# Altium schematic symbol library N-Channel FET.SchLib: 448 symbols (part 7 of 8)
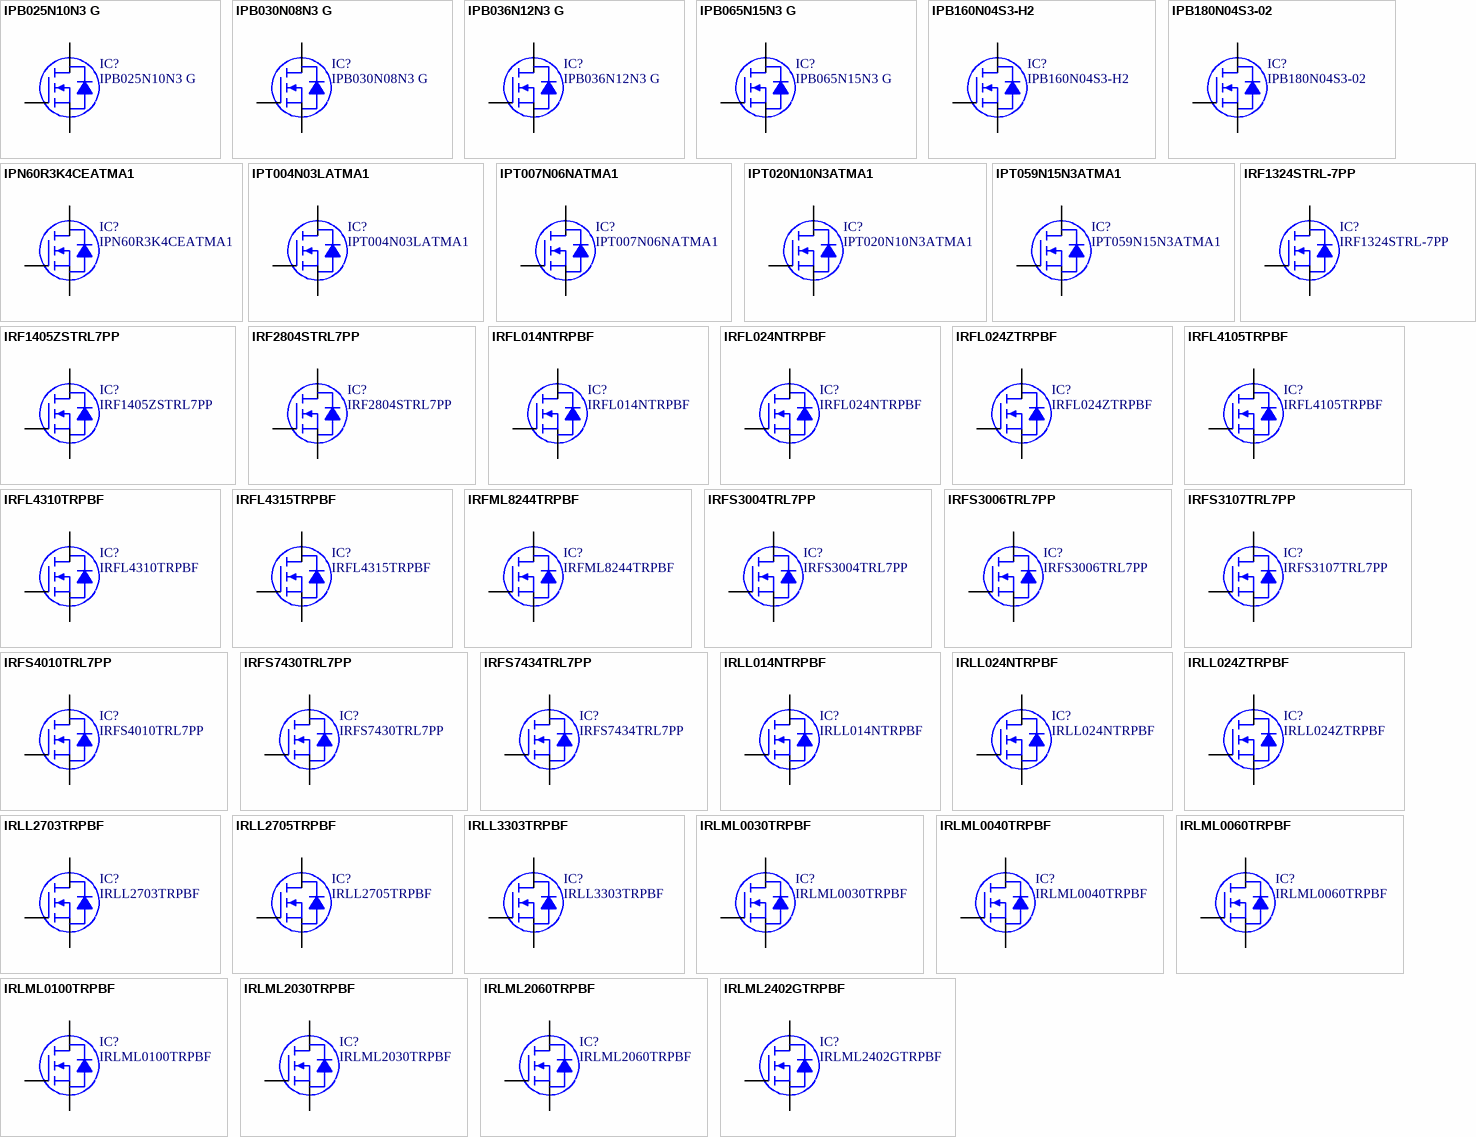
[diagram p17: symbols IPB025N10N3 G to IRLML2402GTRPBF]

## IRF1324STRL-7PP
designator IC?
MOSFET N-CH 24V 429A D2PAK-7; Manufacturer: Infineon Technologies Americas Corp.; Rds On (Max) at Id, Vgs: 1 mOhm @ 160A, 10V; Vgs(th) (Max) at Id: 4V @ 250uA; Gate Charge (Qg): 252nC @ 10V; Input Capacitance (Ciss) at Vds: 7700pF @ 19V; Power - Max: 300W; Current Continuous Drain: 240A (Tc); Part Number: IRF1324STRL-7PP; PartId: 8058; Supplier 1: Digi-Key; Supplier Part Number 1: IRF1324STRL-7PPTR-ND; ComponentLink1Description: Datasheet; ComponentLink1URL: http://www.irf.com/product-info/datasheets/data/irf1324s-7ppbf.pdf; ComponentLink2Description: Digi-Key Listing; ComponentLink2URL: http://www.digikey.com/product-detail/en/IRF1324STRL-7PP/IRF1324STRL-7PPTR-ND/1925287; Price: 3.2602; Type: MOSFET N-Channel, Metal Oxide; Device Package: TO-263-7, DPak (6 Leads + Tab), TO-263CB; Drain to Source Voltage (Vdss): 24V; Features: Standard
footprint INFINEON TO-263-7
pins: 1 G, 2 S, 3 S, 5 S, 6 S, 7 S, 8 D

## IRF1405ZSTRL7PP
designator IC?
MOSFET N-CH 55V 150A D2PAK-7; Manufacturer: Infineon Technologies Americas Corp.; Rds On (Max) at Id, Vgs: 4.9 mOhm @ 88A, 10V; Vgs(th) (Max) at Id: 4V @ 150uA; Gate Charge (Qg): 230nC @ 10V; Input Capacitance (Ciss) at Vds: 5360pF @ 25V; Power - Max: 230W; Current Continuous Drain: 120A (Tc); Part Number: IRF1405ZSTRL7PP; PartId: 8057; Supplier 1: Digi-Key; Supplier Part Number 1: IRF1405ZSTRL7PPTR-ND; ComponentLink1Description: Datasheet; ComponentLink1URL: http://www.irf.com/product-info/datasheets/data/irf1405zs-7ppbf.pdf; ComponentLink2Description: Digi-Key Listing; ComponentLink2URL: http://www.digikey.com/product-detail/en/IRF1405ZSTRL7PP/IRF1405ZSTRL7PPTR-ND/2354054; Price: 2.4651; Type: MOSFET N-Channel, Metal Oxide; Device Package: TO-263-7, DPak (6 Leads + Tab), TO-263CB; Drain to Source Voltage (Vdss): 55V; Features: Standard
footprint INFINEON TO-263-7
pins: 1 G, 2 S, 3 S, 5 S, 6 S, 7 S, 8 D

## IRF2804STRL7PP
designator IC?
MOSFET N-CH 40V 160A D2PAK-7; Manufacturer: Infineon Technologies Americas Corp.; Rds On (Max) at Id, Vgs: 1.6 mOhm @ 160A, 10V; Vgs(th) (Max) at Id: 4V @ 250uA; Gate Charge (Qg): 260nC @ 10V; Input Capacitance (Ciss) at Vds: 6930pF @ 25V; Power - Max: 330W; Current Continuous Drain: 160A (Tc); Part Number: IRF2804STRL7PP; PartId: 8056; Supplier 1: Digi-Key; Supplier Part Number 1: IRF2804STRL7PPTR-ND; ComponentLink1Description: Datasheet; ComponentLink1URL: http://www.irf.com/product-info/datasheets/data/irf2804s-7p.pdf; ComponentLink2Description: Digi-Key Listing; ComponentLink2URL: http://www.digikey.com/product-detail/en/IRF2804STRL7PP/IRF2804STRL7PPTR-ND/1828320; Price: 3.3034; Type: MOSFET N-Channel, Metal Oxide; Device Package: TO-263-7, DPak (6 Leads + Tab), TO-263CB; Drain to Source Voltage (Vdss): 40V; Features: Standard
footprint INFINEON TO-263-7
pins: 1 G, 2 S, 3 S, 5 S, 6 S, 7 S, 8 D

## IRFL014NTRPBF
designator IC?
MOSFET N-CH 55V 1.9A SOT223; Manufacturer: Infineon Technologies; Rds On (Max) at Id, Vgs: 160 mOhm @ 1.9A, 10V; Vgs(th) (Max) at Id: 20V; Gate Charge (Qg): 11nC @ 10V; Input Capacitance (Ciss) at Vds: 190pF @ 25V; Current Continuous Drain: 1.9A (Ta); Part Number: IRFL014NTRPBF; PartId: 29688; Supplier 1: Digi-Key; Supplier Part Number 1: IRFL014NPBFCT-ND; ComponentLink1Description: Datasheet; ComponentLink1URL: http://www.irf.com/product-info/datasheets/data/irfl014npbf.pdf; ComponentLink2Description: Digi-Key Listing; ComponentLink2URL: https://www.digikey.com/product-detail/en/infineon-technologies/IRFL014NTRPBF/IRFL014NPBFCT-ND/827837; Price: 0.84; Type: N-Channel; Device Package: TO-261-4, TO-261AA; Drain to Source Voltage (Vdss): 55V
footprint INFINEON SOT-223
pins: 1 G, 2 D, 3 S, 4 D

## IRFL024NTRPBF
designator IC?
MOSFET N-CH 55V 2.8A SOT223; Manufacturer: Infineon Technologies; Rds On (Max) at Id, Vgs: 75 mOhm @ 2.8A, 10V; Vgs(th) (Max) at Id: 20V; Gate Charge (Qg): 18.3nC @ 10V; Input Capacitance (Ciss) at Vds: 400pF @ 25V; Current Continuous Drain: 2.8A (Ta); Part Number: IRFL024NTRPBF; PartId: 29684; Supplier 1: Digi-Key; Supplier Part Number 1: IRFL024NTRPBFCT-ND; ComponentLink1Description: Datasheet; ComponentLink1URL: http://www.irf.com/product-info/datasheets/data/irfl024npbf.pdf; ComponentLink2Description: Digi-Key Listing; ComponentLink2URL: https://www.digikey.com/product-detail/en/infineon-technologies/IRFL024NTRPBF/IRFL024NTRPBFCT-ND/2441038; Price: 1.09; Type: N-Channel; Device Package: TO-261-4, TO-261AA; Drain to Source Voltage (Vdss): 55V
footprint INFINEON SOT-223
pins: 1 G, 2 D, 3 S, 4 D

## IRFL024ZTRPBF
designator IC?
MOSFET N-CH 55V 5.1A SOT223; Manufacturer: Infineon Technologies Americas Corp.; Rds On (Max) at Id, Vgs: 57.5 mOhm @ 3.1A, 10V; Vgs(th) (Max) at Id: 4V @ 250uA; Gate Charge (Qg): 14nC @ 10V; Input Capacitance (Ciss) at Vds: 340pF @ 25V; Power - Max: 1W; Current Continuous Drain: 5.1A (Ta); Part Number: IRFL024ZTRPBF; PartId: 8095; Supplier 1: Digi-Key; Supplier Part Number 1: IRFL024ZTRPBFTR-ND; ComponentLink1Description: Datasheet; ComponentLink1URL: http://www.irf.com/product-info/datasheets/data/irfl024zpbf.pdf; ComponentLink2Description: Digi-Key Listing; ComponentLink2URL: http://www.digikey.com/product-detail/en/IRFL024ZTRPBF/IRFL024ZTRPBFTR-ND/1928237; Price: 0.29; Type: MOSFET N-Channel, Metal Oxide; Device Package: TO-261-4, TO-261AA; Drain to Source Voltage (Vdss): 55V; Features: Standard
footprint INFINEON SOT-223
pins: 1 G, 2 D, 3 S, 4 D

## IRFL4105TRPBF
designator IC?
MOSFET N-CH 55V 3.7A SOT223; Manufacturer: Infineon Technologies; Rds On (Max) at Id, Vgs: 45 mOhm @ 3.7A, 10V; Vgs(th) (Max) at Id: 20V; Gate Charge (Qg): 35nC @ 10V; Input Capacitance (Ciss) at Vds: 660pF @ 25V; Current Continuous Drain: 3.7A (Ta); Part Number: IRFL4105TRPBF; PartId: 29682; Supplier 1: Digi-Key; Supplier Part Number 1: IRFL4105TRPBFCT-ND; ComponentLink1Description: Datasheet; ComponentLink1URL: http://www.irf.com/product-info/datasheets/data/irfl4105pbf.pdf; ComponentLink2Description: Digi-Key Listing; ComponentLink2URL: https://www.digikey.com/product-detail/en/infineon-technologies/IRFL4105TRPBF/IRFL4105TRPBFCT-ND/1769892; Price: 1.25; Type: N-Channel; Device Package: TO-261-4, TO-261AA; Drain to Source Voltage (Vdss): 55V
footprint INFINEON SOT-223
pins: 1 G, 2 D, 3 S, 4 D

## IRFL4310TRPBF
designator IC?
MOSFET N-CH 100V 1.6A SOT223; Manufacturer: Infineon Technologies; Rds On (Max) at Id, Vgs: 200 mOhm @ 1.6A, 10V; Vgs(th) (Max) at Id: 20V; Gate Charge (Qg): 25nC @ 10V; Input Capacitance (Ciss) at Vds: 330pF @ 25V; Current Continuous Drain: 1.6A (Ta); Part Number: IRFL4310TRPBF; PartId: 29672; Supplier 1: Digi-Key; Supplier Part Number 1: IRFL4310TRPBFCT-ND; ComponentLink1Description: Datasheet; ComponentLink1URL: http://www.irf.com/product-info/datasheets/data/irfl4310pbf.pdf; ComponentLink2Description: Digi-Key Listing; ComponentLink2URL: https://www.digikey.com/product-detail/en/infineon-technologies/IRFL4310TRPBF/IRFL4310TRPBFCT-ND/1769893; Price: 0.89; Type: N-Channel; Device Package: TO-261-4, TO-261AA; Drain to Source Voltage (Vdss): 100V
footprint INFINEON SOT-223
pins: 1 G, 2 D, 3 S, 4 D

## IRFL4315TRPBF
designator IC?
MOSFET N-CH 150V 2.6A SOT223; Manufacturer: Infineon Technologies; Rds On (Max) at Id, Vgs: 185 mOhm @ 1.6A, 10V; Vgs(th) (Max) at Id: 30V; Gate Charge (Qg): 19nC @ 10V; Input Capacitance (Ciss) at Vds: 420pF @ 25V; Current Continuous Drain: 2.6A (Ta); Part Number: IRFL4315TRPBF; PartId: 29681; Supplier 1: Digi-Key; Supplier Part Number 1: IRFL4315TRPBFCT-ND; ComponentLink1Description: Datasheet; ComponentLink1URL: http://www.irf.com/product-info/datasheets/data/irfl4315pbf.pdf; ComponentLink2Description: Digi-Key Listing; ComponentLink2URL: https://www.digikey.com/product-detail/en/infineon-technologies/IRFL4315TRPBF/IRFL4315TRPBFCT-ND/2441040; Price: 1.19; Type: N-Channel; Device Package: TO-261-4, TO-261AA; Drain to Source Voltage (Vdss): 150V
footprint INFINEON SOT-223
pins: 1 G, 2 D, 3 S, 4 D

## IRFML8244TRPBF
designator IC?
MOSFET N-CH 25V 5.8A SOT23; Manufacturer: Infineon Technologies; Rds On (Max) at Id, Vgs: 24 mOhm @ 5.8A, 10V; Vgs(th) (Max) at Id: 20V; Gate Charge (Qg): 5.4nC @ 10V; Input Capacitance (Ciss) at Vds: 430pF @ 10V; Current Continuous Drain: 5.8A (Ta); Part Number: IRFML8244TRPBF; PartId: 29462; Supplier 1: Digi-Key; Supplier Part Number 1: IRFML8244TRPBFCT-ND; ComponentLink1Description: Datasheet; ComponentLink1URL: http://www.irf.com/product-info/datasheets/data/irfml8244pbf.pdf; ComponentLink2Description: Digi-Key Listing; ComponentLink2URL: https://www.digikey.com/product-detail/en/infineon-technologies/IRFML8244TRPBF/IRFML8244TRPBFCT-ND/2538166; Price: 0.67; Type: N-Channel; Device Package: TO-236-3, SC-59, SOT-23-3; Drain to Source Voltage (Vdss): 25V
footprint INFINEON SOT-23-3
pins: 1 G, 2 D, 3 S

## IRFS3004TRL7PP
designator IC?
MOSFET N-CH 40V 240A D2PAK7; Manufacturer: Infineon Technologies Americas Corp.; Rds On (Max) at Id, Vgs: 1.25 mOhm @ 195A, 10V; Vgs(th) (Max) at Id: 4V @ 250uA; Gate Charge (Qg): 240nC @ 10V; Input Capacitance (Ciss) at Vds: 9130pF @ 25V; Power - Max: 380W; Current Continuous Drain: 240A (Tc); Part Number: IRFS3004TRL7PP; PartId: 8055; Supplier 1: Digi-Key; Supplier Part Number 1: IRFS3004TRL7PPTR-ND; ComponentLink1Description: Datasheet; ComponentLink1URL: http://www.irf.com/product-info/datasheets/data/irfs3004-7ppbf.pdf; ComponentLink2Description: Digi-Key Listing; ComponentLink2URL: http://www.digikey.com/product-detail/en/IRFS3004TRL7PP/IRFS3004TRL7PPTR-ND/2096603; Price: 2.6659; Type: MOSFET N-Channel, Metal Oxide; Device Package: TO-263-7, DPak (6 Leads + Tab), TO-263CB; Drain to Source Voltage (Vdss): 40V; Features: Standard
footprint INFINEON TO-263-7
pins: 1 G, 2 S, 3 S, 5 S, 6 S, 7 S, 8 D

## IRFS3006TRL7PP
designator IC?
MOSFET N-CH 60V 240A D2PAK7; Manufacturer: Infineon Technologies Americas Corp.; Rds On (Max) at Id, Vgs: 2.1 mOhm @ 168A, 10V; Vgs(th) (Max) at Id: 4V @ 250uA; Gate Charge (Qg): 300nC @ 10V; Input Capacitance (Ciss) at Vds: 8850pF @ 50V; Power - Max: 375W; Current Continuous Drain: 240A (Tc); Part Number: IRFS3006TRL7PP; PartId: 8054; Supplier 1: Digi-Key; Supplier Part Number 1: IRFS3006TRL7PPTR-ND; ComponentLink1Description: Datasheet; ComponentLink1URL: http://www.irf.com/product-info/datasheets/data/irfs3006-7ppbf.pdf; ComponentLink2Description: Digi-Key Listing; ComponentLink2URL: http://www.digikey.com/product-detail/en/IRFS3006TRL7PP/IRFS3006TRL7PPTR-ND/2096605; Price: 3.2121; Type: MOSFET N-Channel, Metal Oxide; Device Package: TO-263-7, DPak (6 Leads + Tab), TO-263CB; Drain to Source Voltage (Vdss): 60V; Features: Standard
footprint INFINEON TO-263-7
pins: 1 G, 2 S, 3 S, 5 S, 6 S, 7 S, 8 D

## IRFS3107TRL7PP
designator IC?
MOSFET N-CH 75V 240A D2PAK7; Manufacturer: Infineon Technologies Americas Corp.; Rds On (Max) at Id, Vgs: 2.6 mOhm @ 160A, 10V; Vgs(th) (Max) at Id: 4V @ 250uA; Gate Charge (Qg): 240nC @ 10V; Input Capacitance (Ciss) at Vds: 9200pF @ 50V; Power - Max: 370W; Current Continuous Drain: 240A (Tc); Part Number: IRFS3107TRL7PP; PartId: 8053; Supplier 1: Digi-Key; Supplier Part Number 1: IRFS3107TRL7PPTR-ND; ComponentLink1Description: Datasheet; ComponentLink1URL: http://www.irf.com/product-info/datasheets/data/irfs3107-7ppbf.pdf; ComponentLink2Description: Digi-Key Listing; ComponentLink2URL: http://www.digikey.com/product-detail/en/IRFS3107TRL7PP/IRFS3107TRL7PPTR-ND/2096607; Price: 3.2818; Type: MOSFET N-Channel, Metal Oxide; Device Package: TO-263-7, DPak (6 Leads + Tab), TO-263CB; Drain to Source Voltage (Vdss): 75V; Features: Standard
footprint INFINEON TO-263-7
pins: 1 G, 2 S, 3 S, 5 S, 6 S, 7 S, 8 D

## IRFS4010TRL7PP
designator IC?
MOSFET N-CH 100V 190A D2PAK-7; Manufacturer: Infineon Technologies Americas Corp.; Rds On (Max) at Id, Vgs: 4 mOhm @ 110A, 10V; Vgs(th) (Max) at Id: 4V @ 250uA; Gate Charge (Qg): 230nC @ 10V; Input Capacitance (Ciss) at Vds: 9830pF @ 50V; Power - Max: 380W; Current Continuous Drain: 190A (Tc); Part Number: IRFS4010TRL7PP; PartId: 8052; Supplier 1: Digi-Key; Supplier Part Number 1: IRFS4010TRL7PPTR-ND; ComponentLink1Description: Datasheet; ComponentLink1URL: http://www.irf.com/product-info/datasheets/data/irfs4010-7ppbf.pdf; ComponentLink2Description: Digi-Key Listing; ComponentLink2URL: http://www.digikey.com/product-detail/en/IRFS4010TRL7PP/IRFS4010TRL7PPTR-ND/2096609; Price: 3.2453; Type: MOSFET N-Channel, Metal Oxide; Device Package: TO-263-7, DPak (6 Leads + Tab), TO-263CB; Drain to Source Voltage (Vdss): 100V; Features: Standard
footprint INFINEON TO-263-7
pins: 1 G, 2 S, 3 S, 5 S, 6 S, 7 S, 8 D

## IRFS7430TRL7PP
designator IC?
MOSFET N-CH 40V 240A D2PAK; Manufacturer: Infineon Technologies Americas Corp.; Rds On (Max) at Id, Vgs: 0.75 mOhm @ 100A, 10V; Vgs(th) (Max) at Id: 3.9V @ 250uA; Gate Charge (Qg): 460nC @ 10V; Input Capacitance (Ciss) at Vds: 13975pF @ 25V; Power - Max: 375W; Current Continuous Drain: 240A (Tc); Part Number: IRFS7430TRL7PP; PartId: 14960; Supplier 1: Digi-Key; Supplier Part Number 1: IRFS7430TRL7PPCT-ND; ComponentLink1Description: Datasheet; ComponentLink1URL: http://www.irf.com/product-info/datasheets/data/irfs7430-7ppbf.pdf; ComponentLink2Description: Digi-Key Listing; ComponentLink2URL: http://www.digikey.com/product-detail/en/infineon-technologies-americas-corp/IRFS7430TRL7PP/IRFS7430TRL7PPCT-ND/4895121; Price: 3.44; Type: MOSFET N-Channel, Metal Oxide; Device Package: TO-263-7, DPak (6 Leads + Tab); Drain to Source Voltage (Vdss): 40V; Features: Standard
footprint IRF TO-263-7
pins: 1 G, 2 S, 3 S, 5 S, 6 S, 7 S, 8 D

## IRFS7434TRL7PP
designator IC?
MOSFET N-CH 40V 240A D2PAK-7; Manufacturer: Infineon Technologies Americas Corp.; Rds On (Max) at Id, Vgs: 1 mOhm @ 100A, 10V; Vgs(th) (Max) at Id: 3.9V @ 250uA; Gate Charge (Qg): 315nC @ 10V; Input Capacitance (Ciss) at Vds: 10250pF @ 25V; Power - Max: 245W; Current Continuous Drain: 240A (Tc); Part Number: IRFS7434TRL7PP; PartId: 8051; Supplier 1: Digi-Key; Supplier Part Number 1: IRFS7434TRL7PPTR-ND; ComponentLink1Description: Datasheet; ComponentLink1URL: http://www.irf.com/product-info/datasheets/data/irfs7434-7ppbf.pdf; ComponentLink2Description: Digi-Key Listing; ComponentLink2URL: http://www.digikey.com/product-detail/en/IRFS7434TRL7PP/IRFS7434TRL7PPTR-ND/4474014; Price: 1.694; Type: MOSFET N-Channel, Metal Oxide; Device Package: TO-263-7, DPak (6 Leads + Tab); Drain to Source Voltage (Vdss): 40V; Features: Standard
footprint INFINEON TO-263-7
pins: 1 G, 2 S, 3 S, 5 S, 6 S, 7 S, 8 D

## IRLL014NTRPBF
designator IC?
MOSFET N-CH 55V 2A SOT223; Manufacturer: Infineon Technologies; Rds On (Max) at Id, Vgs: 140 mOhm @ 2A, 10V; Vgs(th) (Max) at Id: 16V; Gate Charge (Qg): 14nC @ 10V; Input Capacitance (Ciss) at Vds: 230pF @ 25V; Current Continuous Drain: 2A (Ta); Part Number: IRLL014NTRPBF; PartId: 29671; Supplier 1: Digi-Key; Supplier Part Number 1: IRLL014NPBFCT-ND; ComponentLink1Description: Datasheet; ComponentLink1URL: http://www.irf.com/product-info/datasheets/data/irll014npbf.pdf; ComponentLink2Description: Digi-Key Listing; ComponentLink2URL: https://www.digikey.com/product-detail/en/infineon-technologies/IRLL014NTRPBF/IRLL014NPBFCT-ND/812519; Price: 0.95; Type: N-Channel; Device Package: TO-261-4, TO-261AA; Drain to Source Voltage (Vdss): 55V
footprint INFINEON SOT-223
pins: 1 G, 2 D, 3 S, 4 D

## IRLL024NTRPBF
designator IC?
MOSFET N-CH 55V 3.1A SOT223; Manufacturer: Infineon Technologies; Rds On (Max) at Id, Vgs: 65 mOhm @ 3.1A, 10V; Vgs(th) (Max) at Id: 16V; Gate Charge (Qg): 15.6nC @ 5V; Input Capacitance (Ciss) at Vds: 510pF @ 25V; Current Continuous Drain: 3.1A (Ta); Part Number: IRLL024NTRPBF; PartId: 29673; Supplier 1: Digi-Key; Supplier Part Number 1: IRLL024NPBFCT-ND; ComponentLink1Description: Datasheet; ComponentLink1URL: http://www.irf.com/product-info/datasheets/data/irll024npbf.pdf; ComponentLink2Description: Digi-Key Listing; ComponentLink2URL: https://www.digikey.com/product-detail/en/infineon-technologies/IRLL024NTRPBF/IRLL024NPBFCT-ND/827832; Price: 0.92; Type: N-Channel; Device Package: TO-261-4, TO-261AA; Drain to Source Voltage (Vdss): 55V
footprint INFINEON SOT-223
pins: 1 G, 2 D, 3 S, 4 D

## IRLL024ZTRPBF
designator IC?
MOSFET N-CH 55V 5A SOT223; Manufacturer: Infineon Technologies; Rds On (Max) at Id, Vgs: 60 mOhm @ 3A, 10V; Vgs(th) (Max) at Id: 16V; Gate Charge (Qg): 11nC @ 5V; Input Capacitance (Ciss) at Vds: 380pF @ 25V; Current Continuous Drain: 5A (Tc); Part Number: IRLL024ZTRPBF; PartId: 29676; Supplier 1: Digi-Key; Supplier Part Number 1: IRLL024ZTRPBFCT-ND; ComponentLink1Description: Datasheet; ComponentLink1URL: http://www.irf.com/product-info/datasheets/data/irll024zpbf.pdf; ComponentLink2Description: Digi-Key Listing; ComponentLink2URL: https://www.digikey.com/product-detail/en/infineon-technologies/IRLL024ZTRPBF/IRLL024ZTRPBFCT-ND/2441086; Price: 0.91; Type: N-Channel; Device Package: TO-261-4, TO-261AA; Drain to Source Voltage (Vdss): 55V
footprint INFINEON SOT-223
pins: 1 G, 2 D, 3 S, 4 D

## IRLL2703TRPBF
designator IC?
MOSFET N-CH 30V 3.9A SOT223; Manufacturer: Infineon Technologies; Rds On (Max) at Id, Vgs: 45 mOhm @ 3.9A, 10V; Vgs(th) (Max) at Id: 16V; Gate Charge (Qg): 14nC @ 5V; Input Capacitance (Ciss) at Vds: 530pF @ 25V; Current Continuous Drain: 3.9A (Ta); Part Number: IRLL2703TRPBF; PartId: 29677; Supplier 1: Digi-Key; Supplier Part Number 1: IRLL2703TRPBFCT-ND; ComponentLink1Description: Datasheet; ComponentLink1URL: http://www.irf.com/product-info/datasheets/data/irll2703pbf.pdf; ComponentLink2Description: Digi-Key Listing; ComponentLink2URL: https://www.digikey.com/product-detail/en/infineon-technologies/IRLL2703TRPBF/IRLL2703TRPBFCT-ND/2441087; Price: 0.95; Type: N-Channel; Device Package: TO-261-4, TO-261AA; Drain to Source Voltage (Vdss): 30V
footprint INFINEON SOT-223
pins: 1 G, 2 D, 3 S, 4 D

## IRLL2705TRPBF
designator IC?
MOSFET N-CH 55V 3.8A SOT223; Manufacturer: Infineon Technologies; Rds On (Max) at Id, Vgs: 40 mOhm @ 3.8A, 10V; Vgs(th) (Max) at Id: 16V; Gate Charge (Qg): 48nC @ 10V; Input Capacitance (Ciss) at Vds: 870pF @ 25V; Current Continuous Drain: 3.8A (Ta); Part Number: IRLL2705TRPBF; PartId: 29674; Supplier 1: Digi-Key; Supplier Part Number 1: IRLL2705PBFCT-ND; ComponentLink1Description: Datasheet; ComponentLink1URL: http://www.irf.com/product-info/datasheets/data/irll2705pbf.pdf; ComponentLink2Description: Digi-Key Listing; ComponentLink2URL: https://www.digikey.com/product-detail/en/infineon-technologies/IRLL2705TRPBF/IRLL2705PBFCT-ND/812586; Price: 1.01; Type: N-Channel; Device Package: TO-261-4, TO-261AA; Drain to Source Voltage (Vdss): 55V
footprint INFINEON SOT-223
pins: 1 G, 2 D, 3 S, 4 D

## IRLL3303TRPBF
designator IC?
MOSFET N-CH 30V 4.6A SOT223; Manufacturer: Infineon Technologies; Rds On (Max) at Id, Vgs: 31 mOhm @ 4.6A, 10V; Vgs(th) (Max) at Id: 16V; Gate Charge (Qg): 50nC @ 10V; Input Capacitance (Ciss) at Vds: 840pF @ 25V; Current Continuous Drain: 4.6A (Ta); Part Number: IRLL3303TRPBF; PartId: 29683; Supplier 1: Digi-Key; Supplier Part Number 1: IRLL3303PBFCT-ND; ComponentLink1Description: Datasheet; ComponentLink1URL: http://www.irf.com/product-info/datasheets/data/irll3303pbf.pdf; ComponentLink2Description: Digi-Key Listing; ComponentLink2URL: https://www.digikey.com/product-detail/en/infineon-technologies/IRLL3303TRPBF/IRLL3303PBFCT-ND/812590; Price: 1.23; Type: N-Channel; Device Package: TO-261-4, TO-261AA; Drain to Source Voltage (Vdss): 30V
footprint INFINEON SOT-223
pins: 1 G, 2 D, 3 S, 4 D

## IRLML0030TRPBF
designator IC?
MOSFET N-CH 30V 5.3A SOT-23-3; Manufacturer: Infineon Technologies; Rds On (Max) at Id, Vgs: 27 mOhm @ 5.2A, 10V; Vgs(th) (Max) at Id: 20V; Gate Charge (Qg): 2.6nC @ 4.5V; Input Capacitance (Ciss) at Vds: 382pF @ 15V; Current Continuous Drain: 5.3A (Ta); Part Number: IRLML0030TRPBF; PartId: 29466; Supplier 1: Digi-Key; Supplier Part Number 1: IRLML0030TRPBFCT-ND; ComponentLink1Description: Datasheet; ComponentLink1URL: http://www.irf.com/product-info/datasheets/data/irLML0030pbf.pdf; ComponentLink2Description: Digi-Key Listing; ComponentLink2URL: https://www.digikey.com/product-detail/en/infineon-technologies/IRLML0030TRPBF/IRLML0030TRPBFCT-ND/2202231; Price: 0.57; Type: N-Channel; Device Package: TO-236-3, SC-59, SOT-23-3; Drain to Source Voltage (Vdss): 30V
footprint INFINEON SOT-23-3
pins: 1 G, 2 D, 3 S

## IRLML0040TRPBF
designator IC?
MOSFET N-CH 40V 3.6A SOT-23-3; Manufacturer: Infineon Technologies Americas Corp.; Rds On (Max) at Id, Vgs: 56 mOhm @ 3.6A, 10V; Vgs(th) (Max) at Id: 2.5V @ 25uA; Gate Charge (Qg): 3.9nC @ 4.5V; Input Capacitance (Ciss) at Vds: 266pF @ 25V; Power - Max: 1.3W; Current Continuous Drain: 3.6A (Ta); Part Number: IRLML0040TRPBF; PartId: 8075; Supplier 1: Digi-Key; Supplier Part Number 1: IRLML0040TRPBFTR-ND; ComponentLink1Description: Datasheet; ComponentLink1URL: http://www.irf.com/product-info/datasheets/data/irlml0040pbf.pdf; ComponentLink2Description: Digi-Key Listing; ComponentLink2URL: http://www.digikey.com/product-detail/en/IRLML0040TRPBF/IRLML0040TRPBFTR-ND/2354137; Price: 0.1402; Type: MOSFET N-Channel, Metal Oxide; Device Package: TO-236-3, SC-59, SOT-23-3; Drain to Source Voltage (Vdss): 40V; Features: Standard
footprint INFINEON SOT-23-3
pins: 1 G, 2 D, 3 S

## IRLML0060TRPBF
designator IC?
MOSFET N-CH 60V 2.7A SOT-23-3; Manufacturer: Infineon Technologies; Rds On (Max) at Id, Vgs: 92 mOhm @ 2.7A, 10V; Vgs(th) (Max) at Id: 16V; Gate Charge (Qg): 2.5nC @ 4.5V; Input Capacitance (Ciss) at Vds: 290pF @ 25V; Current Continuous Drain: 2.7A (Ta); Part Number: IRLML0060TRPBF; PartId: 29459; Supplier 1: Digi-Key; Supplier Part Number 1: IRLML0060TRPBFCT-ND; ComponentLink1Description: Datasheet; ComponentLink1URL: http://www.irf.com/product-info/datasheets/data/irLML0060pbf.pdf; ComponentLink2Description: Digi-Key Listing; ComponentLink2URL: https://www.digikey.com/product-detail/en/infineon-technologies/IRLML0060TRPBF/IRLML0060TRPBFCT-ND/2202229; Price: 0.63; Type: N-Channel; Device Package: TO-236-3, SC-59, SOT-23-3; Drain to Source Voltage (Vdss): 60V
footprint INFINEON SOT-23-3
pins: 1 G, 2 D, 3 S

## IRLML0100TRPBF
designator IC?
MOSFET N-CH 100V 1.6A SOT-23-3; Manufacturer: Infineon Technologies; Rds On (Max) at Id, Vgs: 220 mOhm @ 1.6A, 10V; Vgs(th) (Max) at Id: 16V; Gate Charge (Qg): 2.5nC @ 4.5V; Input Capacitance (Ciss) at Vds: 290pF @ 25V; Current Continuous Drain: 1.6A (Ta); Part Number: IRLML0100TRPBF; PartId: 29468; Supplier 1: Digi-Key; Supplier Part Number 1: IRLML0100TRPBFCT-ND; ComponentLink1Description: Datasheet; ComponentLink1URL: http://www.irf.com/product-info/datasheets/data/irLML0100pbf.pdf; ComponentLink2Description: Digi-Key Listing; ComponentLink2URL: https://www.digikey.com/product-detail/en/infineon-technologies/IRLML0100TRPBF/IRLML0100TRPBFCT-ND/2202230; Price: 0.75; Type: N-Channel; Device Package: TO-236-3, SC-59, SOT-23-3; Drain to Source Voltage (Vdss): 100V
footprint INFINEON SOT-23-3
pins: 1 G, 2 D, 3 S

## IRLML2030TRPBF
designator IC?
MOSFET N-CH 30V 2.7A SOT-23-3; Manufacturer: Infineon Technologies; Rds On (Max) at Id, Vgs: 100 mOhm @ 2.7A, 10V; Vgs(th) (Max) at Id: 20V; Gate Charge (Qg): 1nC @ 4.5V; Input Capacitance (Ciss) at Vds: 110pF @ 15V; Current Continuous Drain: 2.7A (Ta); Part Number: IRLML2030TRPBF; PartId: 29482; Supplier 1: Digi-Key; Supplier Part Number 1: IRLML2030TRPBFCT-ND; ComponentLink1Description: Datasheet; ComponentLink1URL: http://www.irf.com/product-info/datasheets/data/irLML2030pbf.pdf; ComponentLink2Description: Digi-Key Listing; ComponentLink2URL: https://www.digikey.com/product-detail/en/infineon-technologies/IRLML2030TRPBF/IRLML2030TRPBFCT-ND/2202232; Price: 0.63; Type: N-Channel; Device Package: TO-236-3, SC-59, SOT-23-3; Drain to Source Voltage (Vdss): 30V
footprint INFINEON SOT-23-3
pins: 1 G, 2 D, 3 S

## IRLML2060TRPBF
designator IC?
MOSFET N-CH 60V 1.2A SOT23-3; Manufacturer: Infineon Technologies; Rds On (Max) at Id, Vgs: 480 mOhm @ 1.2A, 10V; Vgs(th) (Max) at Id: 16V; Gate Charge (Qg): 0.67nC @ 4.5V; Input Capacitance (Ciss) at Vds: 64pF @ 25V; Current Continuous Drain: 1.2A (Ta); Part Number: IRLML2060TRPBF; PartId: 29460; Supplier 1: Digi-Key; Supplier Part Number 1: IRLML2060TRPBFCT-ND; ComponentLink1Description: Datasheet; ComponentLink1URL: http://www.irf.com/product-info/datasheets/data/irlml2060pbf.pdf; ComponentLink2Description: Digi-Key Listing; ComponentLink2URL: https://www.digikey.com/product-detail/en/infineon-technologies/IRLML2060TRPBF/IRLML2060TRPBFCT-ND/2271917; Price: 0.65; Type: N-Channel; Device Package: TO-236-3, SC-59, SOT-23-3; Drain to Source Voltage (Vdss): 60V
footprint INFINEON SOT-23-3
pins: 1 G, 2 D, 3 S

## IRLML2402GTRPBF
designator IC?
MOSFET N-CH 20V 1.2A SOT-23-3; Manufacturer: Infineon Technologies; Rds On (Max) at Id, Vgs: 250 mOhm @ 930mA, 4.5V; Vgs(th) (Max) at Id: 12V; Gate Charge (Qg): 3.9nC @ 4.5V; Input Capacitance (Ciss) at Vds: 110pF @ 15V; Current Continuous Drain: 1.2A (Ta); Part Number: IRLML2402GTRPBF; PartId: 29483; Supplier 1: Digi-Key; Supplier Part Number 1: IRLML2402GTRPBFCT-ND; ComponentLink1Description: Datasheet; ComponentLink1URL: http://www.irf.com/product-info/datasheets/data/irlml2402gpbf.pdf; ComponentLink2Description: Digi-Key Listing; ComponentLink2URL: https://www.digikey.com/product-detail/en/infineon-technologies/IRLML2402GTRPBF/IRLML2402GTRPBFCT-ND/2354245; Price: 0.53; Type: N-Channel; Device Package: TO-236-3, SC-59, SOT-23-3; Drain to Source Voltage (Vdss): 20V
footprint INFINEON SOT-23-3
pins: 1 G, 2 D, 3 S

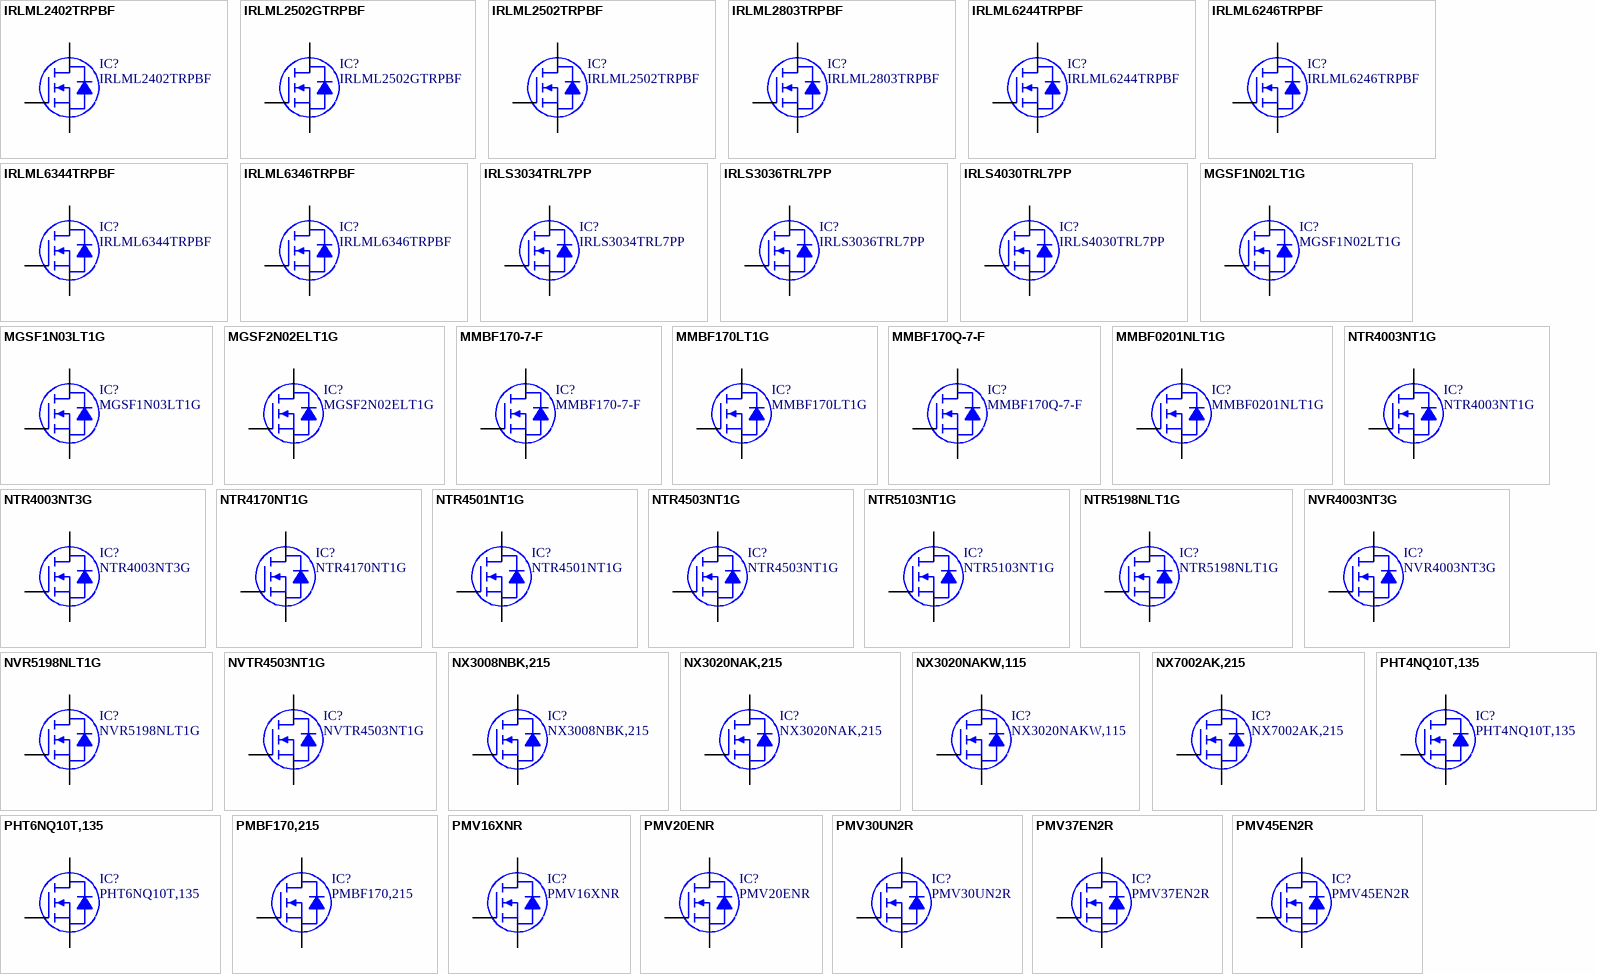
[diagram p9: symbols IRLML2402TRPBF to PMV45EN2R]

## IRLML2402TRPBF
designator IC?
MOSFET N-CH 20V 1.2A SOT-23; Manufacturer: Infineon Technologies; Rds On (Max) at Id, Vgs: 250 mOhm @ 930mA, 4.5V; Vgs(th) (Max) at Id: 12V; Gate Charge (Qg): 3.9nC @ 4.5V; Input Capacitance (Ciss) at Vds: 110pF @ 15V; Current Continuous Drain: 1.2A (Ta); Part Number: IRLML2402TRPBF; PartId: 29458; Supplier 1: Digi-Key; Supplier Part Number 1: IRLML2402PBFCT-ND; ComponentLink1Description: Datasheet; ComponentLink1URL: http://www.irf.com/product-info/datasheets/data/irlml2402pbf.pdf; ComponentLink2Description: Digi-Key Listing; ComponentLink2URL: https://www.digikey.com/product-detail/en/infineon-technologies/IRLML2402TRPBF/IRLML2402PBFCT-ND/812508; Price: 0.63; Type: N-Channel; Device Package: TO-236-3, SC-59, SOT-23-3; Drain to Source Voltage (Vdss): 20V
footprint INFINEON SOT-23-3
pins: 1 G, 2 D, 3 S

## IRLML2502GTRPBF
designator IC?
MOSFET N-CH 20V 4.2A SOT-23-3; Manufacturer: Infineon Technologies; Rds On (Max) at Id, Vgs: 45 mOhm @ 4.2A, 4.5V; Vgs(th) (Max) at Id: 12V; Gate Charge (Qg): 12nC @ 5V; Input Capacitance (Ciss) at Vds: 740pF @ 15V; Current Continuous Drain: 4.2A (Ta); Part Number: IRLML2502GTRPBF; PartId: 29488; Supplier 1: Digi-Key; Supplier Part Number 1: IRLML2502GTRPBFCT-ND; ComponentLink1Description: Datasheet; ComponentLink1URL: http://www.irf.com/product-info/datasheets/data/irlml2502gpbf.pdf; ComponentLink2Description: Digi-Key Listing; ComponentLink2URL: https://www.digikey.com/product-detail/en/infineon-technologies/IRLML2502GTRPBF/IRLML2502GTRPBFCT-ND/2354246; Price: 0.6; Type: N-Channel; Device Package: TO-236-3, SC-59, SOT-23-3; Drain to Source Voltage (Vdss): 20V
footprint INFINEON SOT-23-3
pins: 1 G, 2 D, 3 S

## IRLML2502TRPBF
designator IC?
MOSFET N-CH 20V 4.2A SOT-23; Manufacturer: Infineon Technologies; Rds On (Max) at Id, Vgs: 45 mOhm @ 4.2A, 4.5V; Vgs(th) (Max) at Id: 12V; Gate Charge (Qg): 12nC @ 5V; Input Capacitance (Ciss) at Vds: 740pF @ 15V; Current Continuous Drain: 4.2A (Ta); Part Number: IRLML2502TRPBF; PartId: 29465; Supplier 1: Digi-Key; Supplier Part Number 1: IRLML2502PBFCT-ND; ComponentLink1Description: Datasheet; ComponentLink1URL: http://www.irf.com/product-info/datasheets/data/irlml2502pbf.pdf; ComponentLink2Description: Digi-Key Listing; ComponentLink2URL: https://www.digikey.com/product-detail/en/infineon-technologies/IRLML2502TRPBF/IRLML2502PBFCT-ND/812502; Price: 0.7; Type: N-Channel; Device Package: TO-236-3, SC-59, SOT-23-3; Drain to Source Voltage (Vdss): 20V
footprint INFINEON SOT-23-3
pins: 1 G, 2 D, 3 S

## IRLML2803TRPBF
designator IC?
MOSFET N-CH 30V 1.2A SOT-23; Manufacturer: Infineon Technologies; Rds On (Max) at Id, Vgs: 250 mOhm @ 910mA, 10V; Vgs(th) (Max) at Id: 20V; Gate Charge (Qg): 5nC @ 10V; Input Capacitance (Ciss) at Vds: 85pF @ 25V; Current Continuous Drain: 1.2A (Ta); Part Number: IRLML2803TRPBF; PartId: 29457; Supplier 1: Digi-Key; Supplier Part Number 1: IRLML2803PBFCT-ND; ComponentLink1Description: Datasheet; ComponentLink1URL: http://www.irf.com/product-info/datasheets/data/irlml2803pbf.pdf; ComponentLink2Description: Digi-Key Listing; ComponentLink2URL: https://www.digikey.com/product-detail/en/infineon-technologies/IRLML2803TRPBF/IRLML2803PBFCT-ND/812498; Price: 0.6; Type: N-Channel; Device Package: TO-236-3, SC-59, SOT-23-3; Drain to Source Voltage (Vdss): 30V
footprint INFINEON SOT-23-3
pins: 1 G, 2 D, 3 S

## IRLML6244TRPBF
designator IC?
MOSFET N-CH 20V 6.3A SOT-23; Manufacturer: Infineon Technologies; Rds On (Max) at Id, Vgs: 21 mOhm @ 6.3A, 4.5V; Vgs(th) (Max) at Id: 12V; Gate Charge (Qg): 8.9nC @ 4.5V; Input Capacitance (Ciss) at Vds: 700pF @ 16V; Current Continuous Drain: 6.3A (Ta); Part Number: IRLML6244TRPBF; PartId: 29484; Supplier 1: Digi-Key; Supplier Part Number 1: IRLML6244TRPBFCT-ND; ComponentLink1Description: Datasheet; ComponentLink1URL: http://www.irf.com/product-info/datasheets/data/irlml6244pbf.pdf; ComponentLink2Description: Digi-Key Listing; ComponentLink2URL: https://www.digikey.com/product-detail/en/infineon-technologies/IRLML6244TRPBF/IRLML6244TRPBFCT-ND/2393877; Price: 0.53; Type: N-Channel; Device Package: TO-236-3, SC-59, SOT-23-3; Drain to Source Voltage (Vdss): 20V
footprint INFINEON SOT-23-3
pins: 1 G, 2 D, 3 S

## IRLML6246TRPBF
designator IC?
MOSFET N-CH 20V 4.1A SOT-23; Manufacturer: Infineon Technologies; Rds On (Max) at Id, Vgs: 46 mOhm @ 4.1A, 4.5V; Vgs(th) (Max) at Id: 12V; Gate Charge (Qg): 3.5nC @ 4.5V; Input Capacitance (Ciss) at Vds: 290pF @ 16V; Current Continuous Drain: 4.1A (Ta); Part Number: IRLML6246TRPBF; PartId: 29485; Supplier 1: Digi-Key; Supplier Part Number 1: IRLML6246TRPBFCT-ND; ComponentLink1Description: Datasheet; ComponentLink1URL: http://www.irf.com/product-info/datasheets/data/irlml6246pbf.pdf; ComponentLink2Description: Digi-Key Listing; ComponentLink2URL: https://www.digikey.com/product-detail/en/infineon-technologies/IRLML6246TRPBF/IRLML6246TRPBFCT-ND/2393880; Price: 0.69; Type: N-Channel; Device Package: TO-236-3, SC-59, SOT-23-3; Drain to Source Voltage (Vdss): 20V
footprint INFINEON SOT-23-3
pins: 1 G, 2 D, 3 S

## IRLML6344TRPBF
designator IC?
MOSFET N-CH 30V 5A SOT23; Manufacturer: Infineon Technologies; Rds On (Max) at Id, Vgs: 29 mOhm @ 5A, 4.5V; Vgs(th) (Max) at Id: 12V; Gate Charge (Qg): 6.8nC @ 4.5V; Input Capacitance (Ciss) at Vds: 650pF @ 25V; Current Continuous Drain: 5A (Ta); Part Number: IRLML6344TRPBF; PartId: 29463; Supplier 1: Digi-Key; Supplier Part Number 1: IRLML6344TRPBFCT-ND; ComponentLink1Description: Datasheet; ComponentLink1URL: http://www.irf.com/product-info/datasheets/data/irlml6344pbf.pdf; ComponentLink2Description: Digi-Key Listing; ComponentLink2URL: https://www.digikey.com/product-detail/en/infineon-technologies/IRLML6344TRPBF/IRLML6344TRPBFCT-ND/2538168; Price: 0.53; Type: N-Channel; Device Package: TO-236-3, SC-59, SOT-23-3; Drain to Source Voltage (Vdss): 30V
footprint INFINEON SOT-23-3
pins: 1 G, 2 D, 3 S

## IRLML6346TRPBF
designator IC?
MOSFET N-CH 30V 3.4A SOT23; Manufacturer: Infineon Technologies; Rds On (Max) at Id, Vgs: 63 mOhm @ 3.4A, 4.5V; Vgs(th) (Max) at Id: 12V; Gate Charge (Qg): 2.9nC @ 4.5V; Input Capacitance (Ciss) at Vds: 270pF @ 24V; Current Continuous Drain: 3.4A (Ta); Part Number: IRLML6346TRPBF; PartId: 29461; Supplier 1: Digi-Key; Supplier Part Number 1: IRLML6346TRPBFCT-ND; ComponentLink1Description: Datasheet; ComponentLink1URL: http://www.irf.com/product-info/datasheets/data/irlml6346pbf.pdf; ComponentLink2Description: Digi-Key Listing; ComponentLink2URL: https://www.digikey.com/product-detail/en/infineon-technologies/IRLML6346TRPBF/IRLML6346TRPBFCT-ND/2538169; Price: 0.66; Type: N-Channel; Device Package: TO-236-3, SC-59, SOT-23-3; Drain to Source Voltage (Vdss): 30V
footprint INFINEON SOT-23-3
pins: 1 G, 2 D, 3 S

## IRLS3034TRL7PP
designator IC?
MOSFET N-CH 40V 240A D2PAK7; Manufacturer: Infineon Technologies Americas Corp.; Rds On (Max) at Id, Vgs: 1.4 mOhm @ 200A, 10V; Vgs(th) (Max) at Id: 2.5V @ 250uA; Gate Charge (Qg): 180nC @ 4.5V; Input Capacitance (Ciss) at Vds: 10990pF @ 40V; Power - Max: 380W; Current Continuous Drain: 240A (Tc); Part Number: IRLS3034TRL7PP; PartId: 8050; Supplier 1: Digi-Key; Supplier Part Number 1: IRLS3034TRL7PPTR-ND; ComponentLink1Description: Datasheet; ComponentLink1URL: http://www.irf.com/product-info/datasheets/data/irls3034-7ppbf.pdf; ComponentLink2Description: Digi-Key Listing; ComponentLink2URL: http://www.digikey.com/product-detail/en/IRLS3034TRL7PP/IRLS3034TRL7PPTR-ND/2096641; Price: 3.569; Type: MOSFET N-Channel, Metal Oxide; Device Package: TO-263-7, DPak (6 Leads + Tab), TO-263CB; Drain to Source Voltage (Vdss): 40V; Features: Logic Level Gate
footprint INFINEON TO-263-7
pins: 1 G, 2 S, 3 S, 5 S, 6 S, 7 S, 8 D

## IRLS3036TRL7PP
designator IC?
MOSFET N-CH 60V 240A D2PAK-7; Manufacturer: Infineon Technologies Americas Corp.; Rds On (Max) at Id, Vgs: 1.9 mOhm @ 180A, 10V; Vgs(th) (Max) at Id: 2.5V @ 250uA; Gate Charge (Qg): 160nC @ 4.5V; Input Capacitance (Ciss) at Vds: 11270pF @ 50V; Power - Max: 380W; Current Continuous Drain: 240A (Tc); Part Number: IRLS3036TRL7PP; PartId: 8049; Supplier 1: Digi-Key; Supplier Part Number 1: IRLS3036TRL7PPTR-ND; ComponentLink1Description: Datasheet; ComponentLink1URL: http://www.irf.com/product-info/datasheets/data/irls3036-7ppbf.pdf; ComponentLink2Description: Digi-Key Listing; ComponentLink2URL: http://www.digikey.com/product-detail/en/IRLS3036TRL7PP/IRLS3036TRL7PPTR-ND/2021293; Price: 3.393; Type: MOSFET N-Channel, Metal Oxide; Device Package: TO-263-7, DPak (6 Leads + Tab), TO-263CB; Drain to Source Voltage (Vdss): 60V; Features: Logic Level Gate
footprint INFINEON TO-263-7
pins: 1 G, 2 S, 3 S, 5 S, 6 S, 7 S, 8 D

## IRLS4030TRL7PP
designator IC?
MOSFET N-CH 100V 190A D2PAK-7; Manufacturer: Infineon Technologies Americas Corp.; Rds On (Max) at Id, Vgs: 3.9 mOhm @ 110A, 10V; Vgs(th) (Max) at Id: 2.5V @ 250uA; Gate Charge (Qg): 140nC @ 4.5V; Input Capacitance (Ciss) at Vds: 11490pF @ 50V; Power - Max: 370W; Current Continuous Drain: 190A (Tc); Part Number: IRLS4030TRL7PP; PartId: 8048; Supplier 1: Digi-Key; Supplier Part Number 1: IRLS4030TRL7PPTR-ND; ComponentLink1Description: Datasheet; ComponentLink1URL: http://www.irf.com/product-info/datasheets/data/irls4030-7ppbf.pdf; ComponentLink2Description: Digi-Key Listing; ComponentLink2URL: http://www.digikey.com/product-detail/en/IRLS4030TRL7PP/IRLS4030TRL7PPTR-ND/2096644; Price: 3.7233; Type: MOSFET N-Channel, Metal Oxide; Device Package: TO-263-7, DPak (6 Leads + Tab), TO-263CB; Drain to Source Voltage (Vdss): 100V; Features: Logic Level Gate
footprint INFINEON TO-263-7
pins: 1 G, 2 S, 3 S, 5 S, 6 S, 7 S, 8 D

## MGSF1N02LT1G
designator IC?
MOSFET N-CH 20V 750MA SOT23; Manufacturer: ON Semiconductor; Rds On (Max) at Id, Vgs: 90 mOhm @ 1.2A, 10V; Input Capacitance (Ciss) at Vds: 125pF @ 5V; Current Continuous Drain: 750mA (Ta); Part Number: MGSF1N02LT1G; PartId: 29607; Supplier 1: Digi-Key; Supplier Part Number 1: MGSF1N02LT1GOSCT-ND; ComponentLink1Description: Datasheet; ComponentLink1URL: http://www.onsemi.com/pub_link/Collateral/MGSF1N02LT1-D.PDF; ComponentLink2Description: Digi-Key Listing; ComponentLink2URL: https://www.digikey.com/product-detail/en/on-semiconductor/MGSF1N02LT1G/MGSF1N02LT1GOSCT-ND/1139764; Price: 0.66; Type: N-Channel; Device Package: TO-236-3, SC-59, SOT-23-3; Vgs(th) (Max) at Id: 20V; Drain to Source Voltage (Vdss): 20V
footprint ON SEMI SOT-23-3
pins: 1 G, 2 D, 3 S

## MGSF1N03LT1G
designator IC?
MOSFET N-CH 30V 1.6A SOT-23; Manufacturer: ON Semiconductor; Rds On (Max) at Id, Vgs: 100 mOhm @ 1.2A, 10V; Vgs(th) (Max) at Id: 20V; Input Capacitance (Ciss) at Vds: 140pF @ 5V; Current Continuous Drain: 1.6A (Ta); Part Number: MGSF1N03LT1G; PartId: 29608; Supplier 1: Digi-Key; Supplier Part Number 1: MGSF1N03LT1GOSCT-ND; ComponentLink1Description: Datasheet; ComponentLink1URL: http://www.onsemi.com/pub_link/Collateral/MGSF1N03LT1-D.PDF; ComponentLink2Description: Digi-Key Listing; ComponentLink2URL: https://www.digikey.com/product-detail/en/on-semiconductor/MGSF1N03LT1G/MGSF1N03LT1GOSCT-ND/1139765; Price: 0.72; Type: N-Channel; Device Package: TO-236-3, SC-59, SOT-23-3; Drain to Source Voltage (Vdss): 30V
footprint ON SEMI SOT-23-3
pins: 1 G, 2 D, 3 S

## MGSF2N02ELT1G
designator IC?
MOSFET N-CH 20V 2.8A SOT-23; Manufacturer: ON Semiconductor; Rds On (Max) at Id, Vgs: 85 mOhm @ 3.6A, 4.5V; Vgs(th) (Max) at Id: 8V; Gate Charge (Qg): 3.5nC @ 4V; Input Capacitance (Ciss) at Vds: 150pF @ 5V; Current Continuous Drain: 2.8A (Ta); Part Number: MGSF2N02ELT1G; PartId: 29621; Supplier 1: Digi-Key; Supplier Part Number 1: MGSF2N02ELT1GOSCT-ND; ComponentLink1Description: Datasheet; ComponentLink1URL: http://www.onsemi.com/pub_link/Collateral/MGSF2N02EL-D.PDF; ComponentLink2Description: Digi-Key Listing; ComponentLink2URL: https://www.digikey.com/product-detail/en/on-semiconductor/MGSF2N02ELT1G/MGSF2N02ELT1GOSCT-ND/921051; Price: 0.65; Type: N-Channel; Device Package: TO-236-3, SC-59, SOT-23-3; Drain to Source Voltage (Vdss): 20V
footprint ON SEMI SOT-23-3
pins: 1 G, 2 D, 3 S

## MMBF170-7-F
designator IC?
MOSFET N-CH 60V 500MA SOT23-3; Manufacturer: Diodes Incorporated; Rds On (Max) at Id, Vgs: 5 Ohm @ 200mA, 10V; Vgs(th) (Max) at Id: 20V; Input Capacitance (Ciss) at Vds: 40pF @ 10V; Current Continuous Drain: 500mA (Ta); Part Number: MMBF170-7-F; PartId: 29522; Supplier 1: Digi-Key; Supplier Part Number 1: MMBF170-FDICT-ND; ComponentLink1Description: Datasheet; ComponentLink1URL: http://www.diodes.com/_files/datasheets/ds30104.pdf; ComponentLink2Description: Digi-Key Listing; ComponentLink2URL: https://www.digikey.com/product-detail/en/diodes-incorporated/MMBF170-7-F/MMBF170-FDICT-ND/815721; Price: 0.54; Type: N-Channel; Device Package: TO-236-3, SC-59, SOT-23-3; Drain to Source Voltage (Vdss): 60V
footprint DIODES SOT-23-3
pins: 1 G, 2 D, 3 S

## MMBF170LT1G
designator IC?
MOSFET N-CH 60V 500MA SOT-23; Manufacturer: ON Semiconductor; Rds On (Max) at Id, Vgs: 5 Ohm @ 200mA, 10V; Vgs(th) (Max) at Id: 20V; Input Capacitance (Ciss) at Vds: 60pF @ 10V; Current Continuous Drain: 500mA (Ta); Part Number: MMBF170LT1G; PartId: 29617; Supplier 1: Digi-Key; Supplier Part Number 1: MMBF170LT1GOSCT-ND; ComponentLink1Description: Datasheet; ComponentLink1URL: http://www.onsemi.com/pub_link/Collateral/MMBF170LT1-D.PDF; ComponentLink2Description: Digi-Key Listing; ComponentLink2URL: https://www.digikey.com/product-detail/en/on-semiconductor/MMBF170LT1G/MMBF170LT1GOSCT-ND/1139793; Price: 0.45; Type: N-Channel; Device Package: TO-236-3, SC-59, SOT-23-3; Drain to Source Voltage (Vdss): 60V
footprint ON SEMI SOT-23-3
pins: 1 G, 2 D, 3 S

## MMBF170Q-7-F
designator IC?
MOSFET N-CH 60V 0.5A SOT23-3; Manufacturer: Diodes Incorporated; Rds On (Max) at Id, Vgs: 5 Ohm @ 200mA, 10V; Vgs(th) (Max) at Id: 20V; Input Capacitance (Ciss) at Vds: 40pF @ 10V; Current Continuous Drain: 500mA (Ta); Part Number: MMBF170Q-7-F; PartId: 29563; Supplier 1: Digi-Key; Supplier Part Number 1: MMBF170Q-7-FDICT-ND; ComponentLink1Description: Datasheet; ComponentLink1URL: http://www.diodes.com/_files/datasheets/MMBF170Q.pdf; ComponentLink2Description: Digi-Key Listing; ComponentLink2URL: https://www.digikey.com/product-detail/en/diodes-incorporated/MMBF170Q-7-F/MMBF170Q-7-FDICT-ND/5775259; Price: 0.5; Type: N-Channel; Device Package: TO-236-3, SC-59, SOT-23-3; Drain to Source Voltage (Vdss): 60V
footprint DIODES SOT-23-3
pins: 1 G, 2 D, 3 S

## MMBF0201NLT1G
designator IC?
MOSFET N-CH 20V 300MA SOT-23; Manufacturer: ON Semiconductor; Rds On (Max) at Id, Vgs: 1 Ohm @ 300mA, 10V; Input Capacitance (Ciss) at Vds: 45pF @ 5V; Current Continuous Drain: 300mA (Ta); Part Number: MMBF0201NLT1G; PartId: 29619; Supplier 1: Digi-Key; Supplier Part Number 1: MMBF0201NLT1GOSCT-ND; ComponentLink1Description: Datasheet; ComponentLink1URL: http://www.onsemi.com/pub_link/Collateral/MMBF0201NLT1-D.PDF; ComponentLink2Description: Digi-Key Listing; ComponentLink2URL: https://www.digikey.com/product-detail/en/on-semiconductor/MMBF0201NLT1G/MMBF0201NLT1GOSCT-ND/1139792; Price: 0.66; Type: N-Channel; Device Package: TO-236-3, SC-59, SOT-23-3; Vgs(th) (Max) at Id: 20V; Drain to Source Voltage (Vdss): 20V
footprint ON SEMI SOT-23-3
pins: 1 G, 2 D, 3 S

## NTR4003NT1G
designator IC?
MOSFET N-CH 30V 500MA SOT-23; Manufacturer: ON Semiconductor; Rds On (Max) at Id, Vgs: 1.5 Ohm @ 10mA, 4V; Vgs(th) (Max) at Id: 20V; Gate Charge (Qg): 1.15nC @ 5V; Input Capacitance (Ciss) at Vds: 21pF @ 5V; Current Continuous Drain: 500mA (Ta); Part Number: NTR4003NT1G; PartId: 29616; Supplier 1: Digi-Key; Supplier Part Number 1: NTR4003NT1GOSCT-ND; ComponentLink1Description: Datasheet; ComponentLink1URL: http://www.onsemi.com/pub_link/Collateral/NTR4003N-D.PDF; ComponentLink2Description: Digi-Key Listing; ComponentLink2URL: https://www.digikey.com/product-detail/en/on-semiconductor/NTR4003NT1G/NTR4003NT1GOSCT-ND/1967270; Price: 0.4; Type: N-Channel; Device Package: TO-236-3, SC-59, SOT-23-3; Drain to Source Voltage (Vdss): 30V
footprint ON SEMI SOT-23-3
pins: 1 G, 2 D, 3 S

## NTR4003NT3G
designator IC?
MOSFET N-CH 30V 500MA SOT-23; Manufacturer: ON Semiconductor; Rds On (Max) at Id, Vgs: 1.5 Ohm @ 10mA, 4V; Vgs(th) (Max) at Id: 20V; Gate Charge (Qg): 1.15nC @ 5V; Input Capacitance (Ciss) at Vds: 21pF @ 5V; Current Continuous Drain: 500mA (Ta); Part Number: NTR4003NT3G; PartId: 29612; Supplier 1: Digi-Key; Supplier Part Number 1: NTR4003NT3GOSCT-ND; ComponentLink1Description: Datasheet; ComponentLink1URL: http://www.onsemi.com/pub_link/Collateral/NTR4003N-D.PDF; ComponentLink2Description: Digi-Key Listing; ComponentLink2URL: https://www.digikey.com/product-detail/en/on-semiconductor/NTR4003NT3G/NTR4003NT3GOSCT-ND/1967271; Price: 0.4; Type: N-Channel; Device Package: TO-236-3, SC-59, SOT-23-3; Drain to Source Voltage (Vdss): 30V
footprint ON SEMI SOT-23-3
pins: 1 G, 2 D, 3 S

## NTR4170NT1G
designator IC?
MOSFET N-CH 30V 3.2A SOT23; Manufacturer: ON Semiconductor; Rds On (Max) at Id, Vgs: 55 mOhm @ 3.2A, 10V; Vgs(th) (Max) at Id: 12V; Gate Charge (Qg): 4.76nC @ 4.5V; Input Capacitance (Ciss) at Vds: 432pF @ 15V; Part Number: NTR4170NT1G; PartId: 29606; Supplier 1: Digi-Key; Supplier Part Number 1: NTR4170NT1GOSCT-ND; ComponentLink1Description: Datasheet; ComponentLink1URL: http://www.onsemi.com/pub_link/Collateral/NTR4170N-D.PDF; ComponentLink2Description: Digi-Key Listing; ComponentLink2URL: https://www.digikey.com/product-detail/en/on-semiconductor/NTR4170NT1G/NTR4170NT1GOSCT-ND/2623483; Price: 0.54; Type: N-Channel; Device Package: TO-236-3, SC-59, SOT-23-3; Drain to Source Voltage (Vdss): 30V
footprint ON SEMI SOT-23-3
pins: 1 G, 2 D, 3 S

## NTR4501NT1G
designator IC?
MOSFET N-CH 20V 3.2A SOT-23; Manufacturer: ON Semiconductor; Rds On (Max) at Id, Vgs: 80 mOhm @ 3.6A, 4.5V; Vgs(th) (Max) at Id: 12V; Gate Charge (Qg): 6nC @ 4.5V; Input Capacitance (Ciss) at Vds: 200pF @ 10V; Current Continuous Drain: 3.2A (Ta); Part Number: NTR4501NT1G; PartId: 29630; Supplier 1: Digi-Key; Supplier Part Number 1: NTR4501NT1GOSCT-ND; ComponentLink1Description: Datasheet; ComponentLink1URL: http://www.onsemi.com/pub_link/Collateral/NTR4501N-D.PDF; ComponentLink2Description: Digi-Key Listing; ComponentLink2URL: https://www.digikey.com/product-detail/en/on-semiconductor/NTR4501NT1G/NTR4501NT1GOSCT-ND/687133; Price: 0.67; Type: N-Channel; Device Package: TO-236-3, SC-59, SOT-23-3; Drain to Source Voltage (Vdss): 20V
footprint ON SEMI SOT-23-3
pins: 1 G, 2 D, 3 S

## NTR4503NT1G
designator IC?
MOSFET N-CH 30V 1.5A SOT-23; Manufacturer: ON Semiconductor; Rds On (Max) at Id, Vgs: 110 mOhm @ 2.5A, 10V; Vgs(th) (Max) at Id: 20V; Gate Charge (Qg): 7nC @ 10V; Input Capacitance (Ciss) at Vds: 250pF @ 24V; Current Continuous Drain: 1.5A (Ta); Part Number: NTR4503NT1G; PartId: 29620; Supplier 1: Digi-Key; Supplier Part Number 1: NTR4503NT1GOSCT-ND; ComponentLink1Description: Datasheet; ComponentLink1URL: http://www.onsemi.com/pub_link/Collateral/NTR4503N-D.PDF; ComponentLink2Description: Digi-Key Listing; ComponentLink2URL: https://www.digikey.com/product-detail/en/on-semiconductor/NTR4503NT1G/NTR4503NT1GOSCT-ND/687134; Price: 0.69; Type: N-Channel; Device Package: TO-236-3, SC-59, SOT-23-3; Drain to Source Voltage (Vdss): 30V
footprint ON SEMI SOT-23-3
pins: 1 G, 2 D, 3 S

## NTR5103NT1G
designator IC?
MOSFET N-CH 60V 0.26A SOT23; Manufacturer: ON Semiconductor; Rds On (Max) at Id, Vgs: 2.5 Ohm @ 240mA, 10V; Vgs(th) (Max) at Id: 30V; Gate Charge (Qg): 0.81nC @ 5V; Input Capacitance (Ciss) at Vds: 40pF @ 25V; Current Continuous Drain: 260mA (Ta); Part Number: NTR5103NT1G; PartId: 29610; Supplier 1: Digi-Key; Supplier Part Number 1: NTR5103NT1GOSCT-ND; ComponentLink1Description: Datasheet; ComponentLink1URL: http://www.onsemi.com/pub_link/Collateral/NTR5103N-D.PDF; ComponentLink2Description: Digi-Key Listing; ComponentLink2URL: https://www.digikey.com/product-detail/en/on-semiconductor/NTR5103NT1G/NTR5103NT1GOSCT-ND/5801875; Price: 0.19; Type: N-Channel; Device Package: TO-236-3, SC-59, SOT-23-3; Drain to Source Voltage (Vdss): 60V
footprint ON SEMI SOT-23-3
pins: 1 G, 2 D, 3 S

## NTR5198NLT1G
designator IC?
MOSFET N-CH 60V 1.7A SOT23; Manufacturer: ON Semiconductor; Rds On (Max) at Id, Vgs: 155 mOhm @ 1A, 10V; Vgs(th) (Max) at Id: 20V; Gate Charge (Qg): 2.8nC @ 4.5V; Input Capacitance (Ciss) at Vds: 182pF @ 25V; Current Continuous Drain: 1.7A (Ta); Part Number: NTR5198NLT1G; PartId: 29605; Supplier 1: Digi-Key; Supplier Part Number 1: NTR5198NLT1GOSCT-ND; ComponentLink1Description: Datasheet; ComponentLink1URL: http://www.onsemi.com/pub_link/Collateral/NTR5198NL-D.PDF; ComponentLink2Description: Digi-Key Listing; ComponentLink2URL: https://www.digikey.com/product-detail/en/on-semiconductor/NTR5198NLT1G/NTR5198NLT1GOSCT-ND/4499782; Price: 0.57; Type: N-Channel; Device Package: TO-236-3, SC-59, SOT-23-3; Drain to Source Voltage (Vdss): 60V
footprint ON SEMI SOT-23-3
pins: 1 G, 2 D, 3 S

## NVR4003NT3G
designator IC?
MOSFET N-CH 30V SOT-23-3; Manufacturer: ON Semiconductor; Rds On (Max) at Id, Vgs: 1.5 Ohm @ 10mA, 4V; Vgs(th) (Max) at Id: 20V; Gate Charge (Qg): 1.15nC @ 5V; Input Capacitance (Ciss) at Vds: 21pF @ 5V; Current Continuous Drain: 500mA (Ta); Part Number: NVR4003NT3G; PartId: 29627; Supplier 1: Digi-Key; Supplier Part Number 1: NVR4003NT3GOSCT-ND; ComponentLink1Description: Datasheet; ComponentLink1URL: http://www.onsemi.com/pub_link/Collateral/NTR4003N-D.PDF; ComponentLink2Description: Digi-Key Listing; ComponentLink2URL: https://www.digikey.com/product-detail/en/on-semiconductor/NVR4003NT3G/NVR4003NT3GOSCT-ND/5969169; Price: 0.5; Type: N-Channel; Device Package: TO-236-3, SC-59, SOT-23-3; Drain to Source Voltage (Vdss): 30V
footprint ON SEMI SOT-23-3
pins: 1 G, 2 D, 3 S

## NVR5198NLT1G
designator IC?
MOSFET N-CH 60V 2.2A SOT23; Manufacturer: ON Semiconductor; Rds On (Max) at Id, Vgs: 155 mOhm @ 1A, 10V; Vgs(th) (Max) at Id: 20V; Gate Charge (Qg): 5.1nC @ 10V; Input Capacitance (Ciss) at Vds: 182pF @ 25V; Current Continuous Drain: 1.7A (Ta); Part Number: NVR5198NLT1G; PartId: 29622; Supplier 1: Digi-Key; Supplier Part Number 1: NVR5198NLT1GOSCT-ND; ComponentLink1Description: Datasheet; ComponentLink1URL: http://www.onsemi.com/pub_link/Collateral/NVR5198NL-D.PDF; ComponentLink2Description: Digi-Key Listing; ComponentLink2URL: https://www.digikey.com/product-detail/en/on-semiconductor/NVR5198NLT1G/NVR5198NLT1GOSCT-ND/5969304; Price: 0.7; Type: N-Channel; Device Package: TO-236-3, SC-59, SOT-23-3; Drain to Source Voltage (Vdss): 60V
footprint ON SEMI SOT-23-3
pins: 1 G, 2 D, 3 S

## NVTR4503NT1G
designator IC?
MOSFET N-CH 30V 1.5A SOT23; Manufacturer: ON Semiconductor; Rds On (Max) at Id, Vgs: 110 mOhm @ 2.5A, 10V; Vgs(th) (Max) at Id: 20V; Gate Charge (Qg): 7nC @ 10V; Input Capacitance (Ciss) at Vds: 135pF @ 15V; Current Continuous Drain: 1.5A (Ta); Part Number: NVTR4503NT1G; PartId: 29624; Supplier 1: Digi-Key; Supplier Part Number 1: NVTR4503NT1GOSCT-ND; ComponentLink1Description: Datasheet; ComponentLink1URL: http://www.onsemi.com/pub_link/Collateral/NTR4503N-D.PDF; ComponentLink2Description: Digi-Key Listing; ComponentLink2URL: https://www.digikey.com/product-detail/en/on-semiconductor/NVTR4503NT1G/NVTR4503NT1GOSCT-ND/3487658; Price: 0.73; Type: N-Channel; Device Package: TO-236-3, SC-59, SOT-23-3; Drain to Source Voltage (Vdss): 30V
footprint ON SEMI SOT-23-3
pins: 1 G, 2 D, 3 S

## NX3008NBK,215
designator IC?
MOSFET N-CH 30V TO-236AB; Manufacturer: NXP USA Inc.; Rds On (Max) at Id, Vgs: 1.4 Ohm @ 350mA, 4.5V; Vgs(th) (Max) at Id: 8V; Gate Charge (Qg): 0.68nC @ 4.5V; Input Capacitance (Ciss) at Vds: 50pF @ 15V; Current Continuous Drain: 400mA (Tc); Part Number: NX3008NBK,215; PartId: 29592; Supplier 1: Digi-Key; Supplier Part Number 1: 568-10406-1-ND; ComponentLink1Description: Datasheet; ComponentLink1URL: http://www.nxp.com/documents/data_sheet/NX3008NBK.pdf; ComponentLink2Description: Digi-Key Listing; ComponentLink2URL: https://www.digikey.com/product-detail/en/nxp-usa-inc/NX3008NBK,215/568-10406-1-ND/4333335; Price: 0.45; Type: N-Channel; Device Package: TO-236-3, SC-59, SOT-23-3; Drain to Source Voltage (Vdss): 30V
footprint NXP SOT-23-3 TO-236AB
pins: 1 G, 2 D, 3 S